# EAGLE library part SSD1926 (library solomon-systech)
JPEG Coder SD interface CMOS, 256K Embedded Display, SRAM Image Processor Source: SSD1926_1.2.pdf
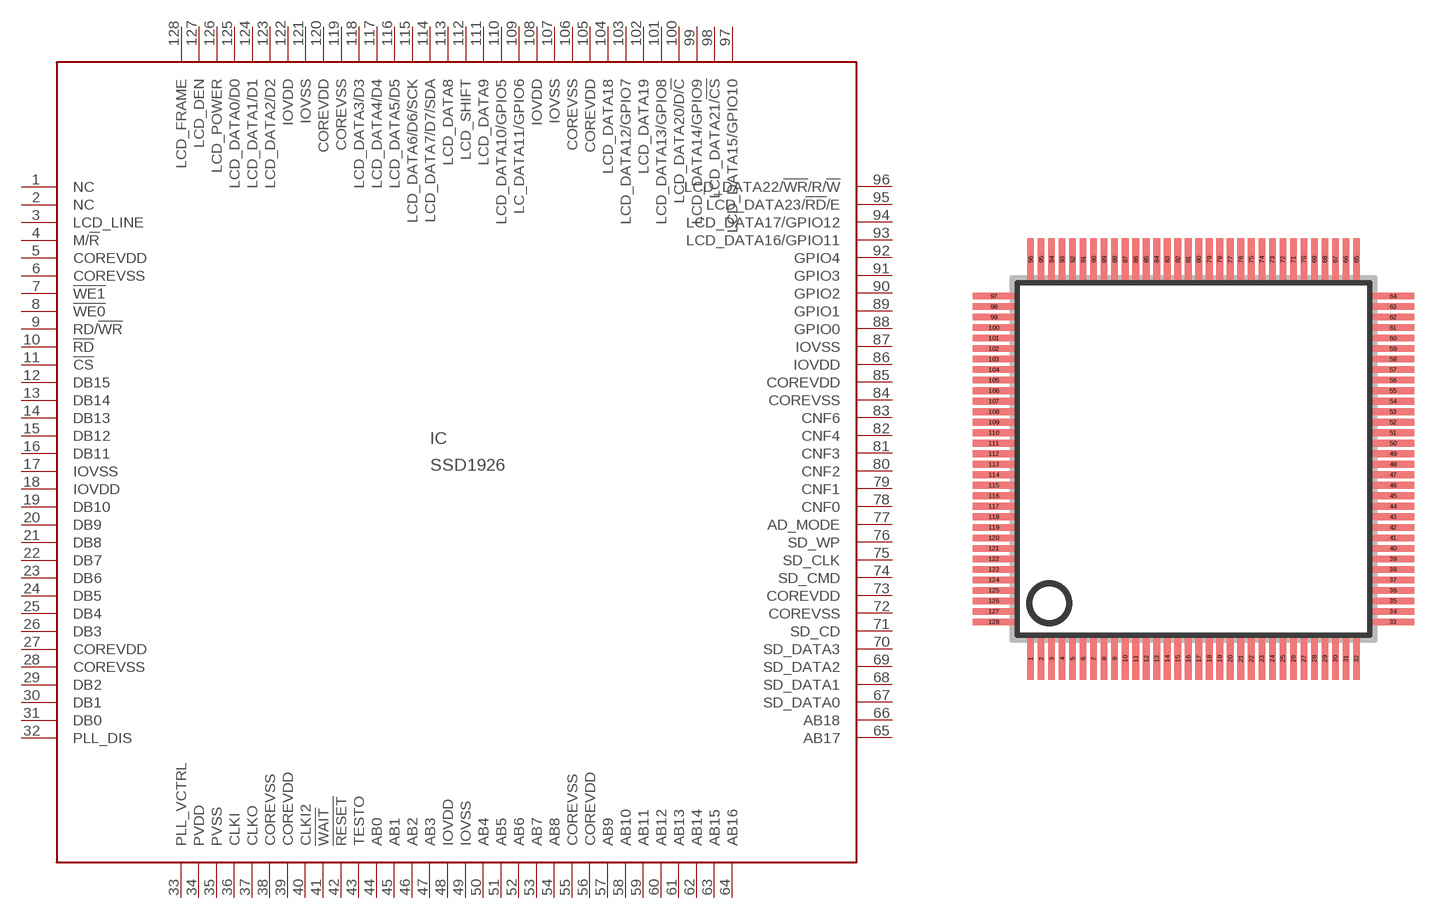
[diagram p1: symbol with the pads of SQFP-S-14X14-128; footprint SQFP-S-14X14-128]

Designator prefix IC

## SSD1926 (OC_FARNELL: unknown; OC_NEWARK: unknown)  [SQFP-S-14X14-128]
1  NC  nc
2  NC  nc
3  LCD_LINE
4  M/!R
5  COREVDD  pwr
6  COREVSS  pwr
7  !WE1
8  !WE0
9  RD/!WR
10  !RD
11  !CS
12  DB15
13  DB14
14  DB13
15  DB12
16  DB11
17  IOVSS  pwr
18  IOVDD  pwr
19  DB10
20  DB9
21  DB8
22  DB7
23  DB6
24  DB5
25  DB4
26  DB3
27  COREVDD  pwr
28  COREVSS  pwr
29  DB2
30  DB1
31  DB0
32  PLL_DIS
33  PLL_VCTRL
34  PVDD  pwr
35  PVSS  pwr
36  CLKI
37  CLKO
38  COREVSS  pwr
39  COREVDD  pwr
40  CLKI2
41  !WAIT
42  !RESET
43  TESTO
44  AB0
45  AB1
46  AB2
47  AB3
48  IOVDD  pwr
49  IOVSS  pwr
50  AB4
51  AB5
52  AB6
53  AB7
54  AB8
55  COREVSS  pwr
56  COREVDD  pwr
57  AB9
58  AB10
59  AB11
60  AB12
61  AB13
62  AB14
63  AB15
64  AB16
65  AB17
66  AB18
67  SD_DATA0
68  SD_DATA1
69  SD_DATA2
70  SD_DATA3
71  SD_CD
72  COREVSS  pwr
73  COREVDD  pwr
74  SD_CMD
75  SD_CLK
76  SD_WP
77  AD_MODE
78  CNF0
79  CNF1
80  CNF2
81  CNF3
82  CNF4
83  CNF6
84  COREVSS  pwr
85  COREVDD  pwr
86  IOVDD
87  IOVSS
88  GPIO0
89  GPIO1
90  GPIO2
91  GPIO3
92  GPIO4
93  LCD_DATA16/GPIO11
94  LCD_DATA17/GPIO12
95  LCD_DATA23/!RD!/E
96  LCD_DATA22/!WR!/R/!W
97  LCD_DATA15/GPIO10
98  LCD_DATA21/!CS
99  LCD_DATA14/GPIO9
100  LCD_DATA20/D/!C
101  LCD_DATA13/GPIO8
102  LCD_DATA19
103  LCD_DATA12/GPIO7
104  LCD_DATA18
105  COREVDD  pwr
106  COREVSS  pwr
107  IOVSS  pwr
108  IOVDD  pwr
109  LC_DATA11/GPIO6
110  LCD_DATA10/GPIO5
111  LCD_DATA9
112  LCD_SHIFT
113  LCD_DATA8
114  LCD_DATA7/D7/SDA
115  LCD_DATA6/D6/SCK
116  LCD_DATA5/D5
117  LCD_DATA4/D4
118  LCD_DATA3/D3
119  COREVSS  pwr
120  COREVDD  pwr
121  IOVSS  pwr
122  IOVDD  pwr
123  LCD_DATA2/D2
124  LCD_DATA1/D1
125  LCD_DATA0/D0
126  LCD_POWER
127  LCD_DEN
128  LCD_FRAME

## Footprint SQFP-S-14X14-128 (pad centres in mm)
QFP128 shrink quad flat pack, square Source: ref-packages.lbr
smd 0.25 x 1.6: 1 -6.2,-7.6; 2 -5.8,-7.6; 3 -5.4,-7.6; 4 -5,-7.6; 5 -4.6,-7.6; 6 -4.2,-7.6; 7 -3.8,-7.6; 8 -3.4,-7.6; 9 -3,-7.6; 10 -2.6,-7.6; 11 -2.2,-7.6; 12 -1.8,-7.6; 13 -1.4,-7.6; 14 -1,-7.6; 15 -0.6,-7.6; 16 -0.2,-7.6; 17 0.2,-7.6; 18 0.6,-7.6; 19 1,-7.6; 20 1.4,-7.6; 21 1.8,-7.6; 22 2.2,-7.6; 23 2.6,-7.6; 24 3,-7.6; 25 3.4,-7.6; 26 3.8,-7.6; 27 4.2,-7.6; 28 4.6,-7.6; 29 5,-7.6; 30 5.4,-7.6; 31 5.8,-7.6; 32 6.2,-7.6; 65 6.2,7.6; 66 5.8,7.6; 67 5.4,7.6; 68 5,7.6; 69 4.6,7.6; 70 4.2,7.6; 71 3.8,7.6; 72 3.4,7.6; 73 3,7.6; 74 2.6,7.6; 75 2.2,7.6; 76 1.8,7.6; 77 1.4,7.6; 78 1,7.6; 79 0.6,7.6; 80 0.2,7.6; 81 -0.2,7.6; 82 -0.6,7.6; 83 -1,7.6; 84 -1.4,7.6; 85 -1.8,7.6; 86 -2.2,7.6; 87 -2.6,7.6; 88 -3,7.6; 89 -3.4,7.6; 90 -3.8,7.6; 91 -4.2,7.6; 92 -4.6,7.6; 93 -5,7.6; 94 -5.4,7.6; 95 -5.8,7.6; 96 -6.2,7.6
smd 1.6 x 0.25: 33 7.6,-6.2; 34 7.6,-5.8; 35 7.6,-5.4; 36 7.6,-5; 37 7.6,-4.6; 38 7.6,-4.2; 39 7.6,-3.8; 40 7.6,-3.4; 41 7.6,-3; 42 7.6,-2.6; 43 7.6,-2.2; 44 7.6,-1.8; 45 7.6,-1.4; 46 7.6,-1; 47 7.6,-0.6; 48 7.6,-0.2; 49 7.6,0.2; 50 7.6,0.6; 51 7.6,1; 52 7.6,1.4; 53 7.6,1.8; 54 7.6,2.2; 55 7.6,2.6; 56 7.6,3; 57 7.6,3.4; 58 7.6,3.8; 59 7.6,4.2; 60 7.6,4.6; 61 7.6,5; 62 7.6,5.4; 63 7.6,5.8; 64 7.6,6.2; 97 -7.6,6.2; 98 -7.6,5.8; 99 -7.6,5.4; 100 -7.6,5; 101 -7.6,4.6; 102 -7.6,4.2; 103 -7.6,3.8; 104 -7.6,3.4; 105 -7.6,3; 106 -7.6,2.6; 107 -7.6,2.2; 108 -7.6,1.8; 109 -7.6,1.4; 110 -7.6,1; 111 -7.6,0.6; 112 -7.6,0.2; 113 -7.6,-0.2; 114 -7.6,-0.6; 115 -7.6,-1; 116 -7.6,-1.4; 117 -7.6,-1.8; 118 -7.6,-2.2; 119 -7.6,-2.6; 120 -7.6,-3; 121 -7.6,-3.4; 122 -7.6,-3.8; 123 -7.6,-4.2; 124 -7.6,-4.6; 125 -7.6,-5; 126 -7.6,-5.4; 127 -7.6,-5.8; 128 -7.6,-6.2